# Altium integrated library D-SUB-Filter Solder Cup.IntLib: 8 symbols
Pins are listed as number, name and electrical type; pins without a type are passive.

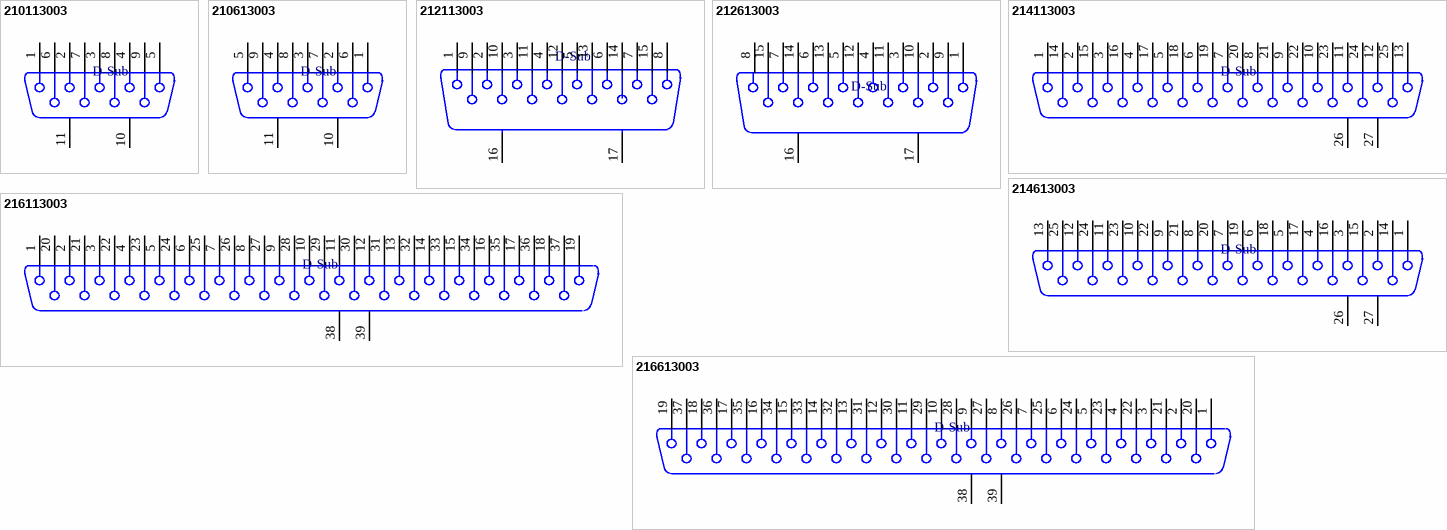
[diagram p0: symbols 210113003 to 216613003]

## 210113003
designator D-Sub
D-SUB-Filter Connectors WE-DS, Solder Cup; PartNumber: 210113003; PackageReference: WE-DS, 210113003; ComponentLink1Description: Manufacturer URL; ComponentLink1URL: http://www.we-online.com; ComponentLink2Description: Datasheet; ComponentLink2URL: http://katalog.we-online.de/kataloge/eisos/index.php?language=en&pf=Filter_Loetkelch
footprint WE-DS, 210113003 (D-SUB- 9P, MALE, SOLDER BUCKET VERTICAL MOUNT, TH)
pins: 1, 2, 3, 4, 5, 6, 7, 8, 9, 10 MH1, 11 MH2

## 210613003
designator D-Sub
D-SUB-Filter Connectors WE-DS, Solder Cup; PartNumber: 210613003; PackageReference: WE-DS, 210613003; ComponentLink1Description: Manufacturer URL; ComponentLink1URL: http://www.we-online.com; ComponentLink2Description: Datasheet; ComponentLink2URL: http://katalog.we-online.de/kataloge/eisos/index.php?language=en&pf=Filter_Loetkelch
footprint WE-DS, 210613003 (D-SUB- 9P, FEMALE, SOLDER BUCKET VERTICAL MOUNT, TH)
pins: 1, 2, 3, 4, 5, 6, 7, 8, 9, 10 MH1, 11 MH2

## 212113003
designator D-Sub
D-SUB-Filter Connectors WE-DS, Solder Cup; PartNumber: 212113003; PackageReference: WE-DS, 212113003; ComponentLink1Description: Manufacturer URL; ComponentLink1URL: http://www.we-online.com; ComponentLink2Description: Datasheet; ComponentLink2URL: http://katalog.we-online.de/kataloge/eisos/index.php?language=en&pf=Filter_Loetkelch
footprint WE-DS, 212113003 (D-SUB- 15P, MALE, SOLDER BUCKET, TH)
pins: 1, 2, 3, 4, 5, 6, 7, 8, 9, 10, 11, 12, 13, 14, 15, 16 MH1, 17 MH2

## 212613003
designator D-Sub
D-SUB-Filter Connectors WE-DS, Solder Cup; PartNumber: 212613003; PackageReference: WE-DS, 212613003; ComponentLink1Description: Manufacturer URL; ComponentLink1URL: http://www.we-online.com; ComponentLink2Description: Datasheet; ComponentLink2URL: http://katalog.we-online.de/kataloge/eisos/index.php?language=en&pf=Filter_Loetkelch
footprint WE-DS, 212613003 (D-SUB- 15P, FEMALE, SOLDER BUCKET, TH)
pins: 1, 2, 3, 4, 5, 6, 7, 8, 9, 10, 11, 12, 13, 14, 15, 16 MH1, 17 MH2

## 214113003
designator D-Sub
D-SUB-Filter Connectors WE-DS, Solder Cup; PartNumber: 214113003; PackageReference: WE-DS, 214113003; ComponentLink1Description: Manufacturer URL; ComponentLink1URL: http://www.we-online.com; ComponentLink2Description: Datasheet; ComponentLink2URL: http://katalog.we-online.de/kataloge/eisos/index.php?language=en&pf=Filter_Loetkelch
footprint WE-DS, 214113003 (D-SUB- 25P, MALE, SOLDER BUCKET,TH)
pins: 1, 2, 3, 4, 5, 6, 7, 8, 9, 10, 11, 12, 13, 14, 15, 16, 17, 18, 19, 20, 21, 22, 23, 24, 25, 26 MH1, 27 MH2

## 214613003
designator D-Sub
D-SUB-Filter Connectors WE-DS, Solder Cup; PartNumber: 214613003; PackageReference: WE-DS, 214613003; ComponentLink1Description: Manufacturer URL; ComponentLink1URL: http://www.we-online.com; ComponentLink2Description: Datasheet; ComponentLink2URL: http://katalog.we-online.de/kataloge/eisos/index.php?language=en&pf=Filter_Loetkelch
footprint WE-DS, 214613003 (D-SUB- 25P, FEMALE, SOLDER BUCKET, TH)
pins: 1, 2, 3, 4, 5, 6, 7, 8, 9, 10, 11, 12, 13, 14, 15, 16, 17, 18, 19, 20, 21, 22, 23, 24, 25, 26 MH1, 27 MH2

## 216113003
designator D-Sub
D-SUB-Filter Connectors WE-DS, Solder Cup; PartNumber: 216113003; PackageReference: WE-DS, 216113003; ComponentLink1Description: Manufacturer URL; ComponentLink1URL: http://www.we-online.com; ComponentLink2Description: Datasheet; ComponentLink2URL: http://katalog.we-online.de/kataloge/eisos/index.php?language=en&pf=Filter_Loetkelch
footprint WE-DS, 216113003 (D-SUB- 37P, MALE, SOLDER BUCKET, TH)
pins: 1, 2, 3, 4, 5, 6, 7, 8, 9, 10, 11, 12, 13, 14, 15, 16, 17, 18, 19, 20, 21, 22, 23, 24, 25, 26, 27, 28, 29, 30, 31, 32, 33, 34, 35, 36, 37, 38 MH1, 39 MH2

## 216613003
designator D-Sub
D-SUB-Filter Connectors WE-DS, Solder Cup; PartNumber: 216613003; PackageReference: WE-DS, 216613003; ComponentLink1Description: Manufacturer URL; ComponentLink1URL: http://www.we-online.com; ComponentLink2Description: Datasheet; ComponentLink2URL: http://katalog.we-online.de/kataloge/eisos/index.php?language=en&pf=Filter_Loetkelch
footprint WE-DS, 216613003 (D-SUB- 37P, FEMALE, SOLDER BUCKET, TH)
pins: 1, 2, 3, 4, 5, 6, 7, 8, 9, 10, 11, 12, 13, 14, 15, 16, 17, 18, 19, 20, 21, 22, 23, 24, 25, 26, 27, 28, 29, 30, 31, 32, 33, 34, 35, 36, 37, 38 MH1, 39 MH2